# EAGLE library part USB4105 (library Connectors)
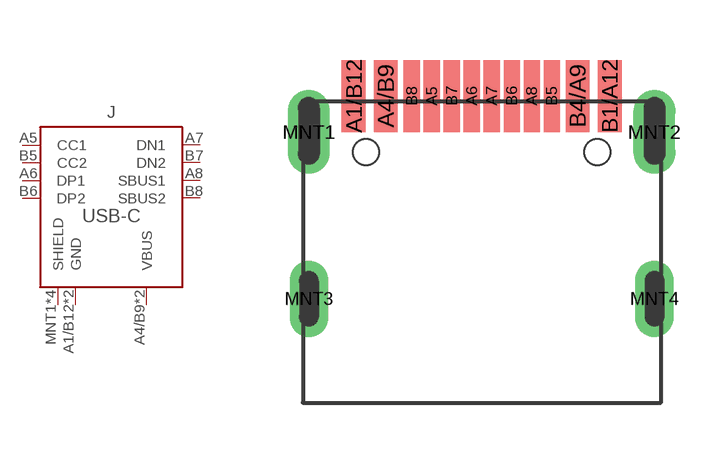
[diagram p12: symbol with the pads of USB4105; footprint USB4105]

Designator prefix J

## USB4105 (MFG: GCT; MPN: USB4105)  [USB4105]
A1/B12  GND  pwr
A4/B9  VBUS  pwr
A5  CC1
A6  DP1
A7  DN1
A8  SBUS1
B1/A12  GND  pwr
B4/A9  VBUS  pwr
B5  CC2
B6  DP2
B7  DN2
B8  SBUS2
MNT1  SHIELD  pwr
MNT2  SHIELD  pwr
MNT3  SHIELD  pwr
MNT4  SHIELD  pwr

## Footprint USB4105 (pad centres in mm)
smd 0.6 x 1.8: A1/B12 -3.2,3.8; A4/B9 -2.4,3.8; B1/A12 3.2,3.8; B4/A9 2.4,3.8
smd 0.4 x 1.8: A5 -1.25,3.8; A6 -0.25,3.8; A7 0.25,3.8; A8 1.25,3.8; B5 1.75,3.8; B6 0.75,3.8; B7 -0.75,3.8; B8 -1.75,3.8
drill 0.45 pad 1.05 long: MNT1 -4.32,2.9; MNT2 4.32,2.9
drill 0.45 pad 0.9 long: MNT3 -4.32,-1.28; MNT4 4.32,-1.28
hole 0.65 at -2.89,2.4
hole 0.65 at 2.89,2.4